# Altium footprint library Connectors.PcbLib: 76 footprints (part 5 of 5)
Each footprint in its own frame and in the unit in brackets; x right, y up, seen from the top. Pads: shape width x height; smd on the part's side, far side on the other; paste and mask are expansions set on the pad; w line width, h text height; cw(c..) or ccw(c..) is an arc to the next point about the centre after c.
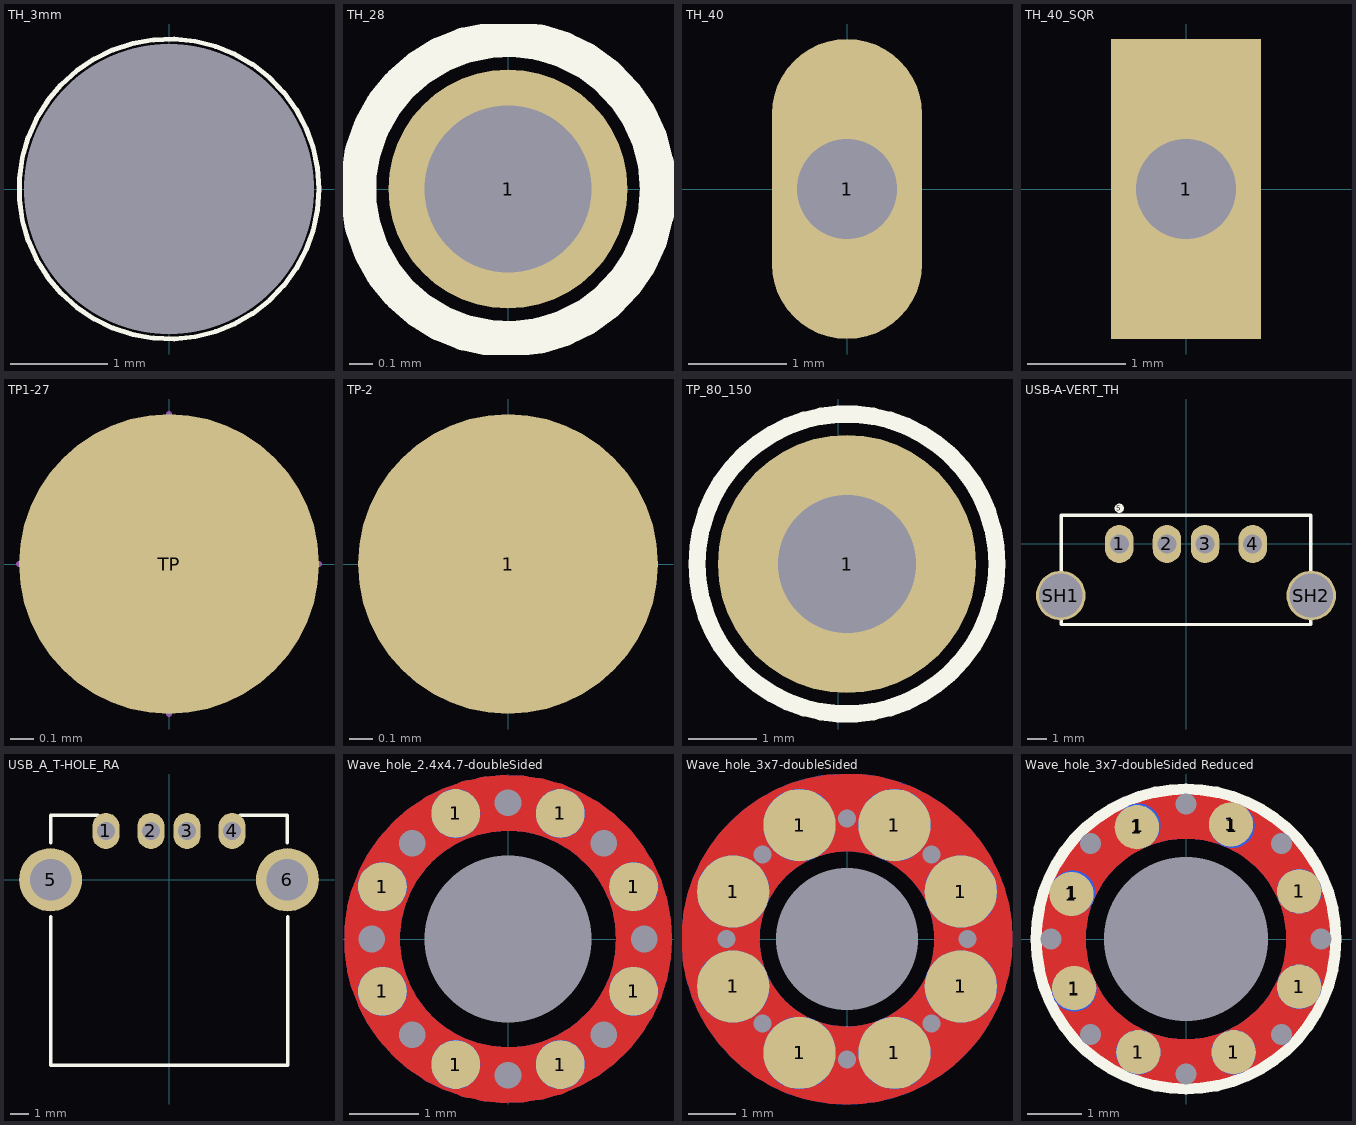
[diagram p4: the footprints below, top view; thin cyan lines are the x and y axes]

## TH_3mm [mm]
pads (1):
  round 0 hole 3 unplated mask+0: ""(0,0)
Top Overlay:
  circle w0.051: c0,0 r1.55

## TH_28 [mil]
pads (1):
  round 40 hole 28: 1(0,0)
Top Overlay:
  circle w6: c0,0 r25.08

## TH_40 [mil]
pads (1):
  oval 60x120 hole 40: 1(0,0)

## TH_40_SQR [mil]
pads (1):
  rect 60x120 hole 40: 1(0,0)

## TP1-27 [mm]
pads (1):
  rrect100% 1.27x1.27 smd paste-1.27: TP(0,0)
Mechanical 9:
  lines w0.025: -0.635,0 0.635,0 ; 0,-0.635 0,0.635
3D body: height 0.01, standoff 0, extent -0.64,-0.639 0.635,0.639

## TP-2 [mm]
pads (1):
  round 1.27 smd paste-2: 1(0,0)
3D body: height 0.03, standoff 0, extent -0.63,-0.634 0.635,0.634

## TP_80_150 [mil]
pads (1):
  round 150 hole 80: 1(5,-200)
Top Overlay:
  circle w10: c5,-200 r87.09

## USB-A-VERT_TH [mm]
pads (7):
  oval 1.5x2 hole 1: 1(-3.5,0) 2(-1,0) 3(1,0) 4(3.5,0)
  round 0.5 on Top Overlay mask+0.051: 5(-3.5,1.875)
  round 2.6 hole 2.3 mask+0.051: SH1(-6.57,-2.71) SH2(6.57,-2.71)
Top Overlay:
  lines w0.178: -6.55,-4.225 -6.55,1.5 6.55,1.5 6.55,-4.225 -6.55,-4.225
3D body: height 14, standoff 0, extent -6.55,-4.225 6.55,1.5

## USB_A_T-HOLE_RA [mm]
pads (6):
  oval 1.5x2 hole 1: 1(-3.5,2.71) 2(-1,2.71) 3(1,2.71) 4(3.5,2.71)
  round 3.5 hole 2.3: 5(-6.57,0) 6(6.57,0)
Top Overlay:
  lines w0.203: -6.55,-2.05 -6.55,-10.28 6.59,-10.28 6.59,-2.05 ; -6.55,2.06 -6.55,3.57 -3.95,3.57 ; 3.95,3.57 6.55,3.57 6.55,2.05
3D body "M-UE27-AC54-100-REVT1.STEP": height 7.6, standoff -3.15, extent -7.403,-10.25 7.444,3.55

## Wave_hole_2.4x4.7-doubleSided [mm]
pads (25):
  round 0 hole 0.381 paste-0.508 mask-0.508: 1(-1.95,0) 1(-1.375,-1.375) 1(-1.375,1.375) 1(0,-1.95) 1(0,1.95) 1(1.375,-1.375) 1(1.375,1.375) 1(1.951,0)
  round 0.7 smd paste-0.127 mask+0: 1(-1.8,-0.75) 1(-1.8,0.75) 1(-0.75,-1.8) 1(-0.75,1.8) 1(0.75,-1.8) 1(0.75,1.8) 1(1.8,-0.75) 1(1.8,0.75)
  round 0.7 smd far side paste-0.127 mask+0: 1(-1.8,-0.75) 1(-1.8,0.75) 1(-0.75,-1.8) 1(-0.75,1.8) 1(0.75,-1.8) 1(0.75,1.8) 1(1.8,-0.75) 1(1.8,0.75)
  round 0 hole 2.4 unplated paste+0 mask-2.845: ""(0,0)
Top Layer:
  circle w0.8: c0,0 r1.951
Bottom Layer:
  circle w0.8: c0,0 r1.951

## Wave_hole_3x7-doubleSided [mil]
pads (25):
  round 0 hole 15 paste-20 mask-20: 1(-100,0) 1(-70,-70) 1(-70,70) 1(0,-100) 1(0,100) 1(70,-70) 1(70,70) 1(100,0)
  round 60 smd paste-5 mask+0: 1(-94.49,-39.37) 1(-94.49,39.37) 1(-39.37,-94.49) 1(-39.37,94.49) 1(39.37,-94.49) 1(39.37,94.49) 1(94.49,-39.37) 1(94.49,39.37)
  round 60 smd far side paste-5 mask+0: 1(-94.49,-39.37) 1(-94.49,39.37) 1(-39.37,-94.49) 1(-39.37,94.49) 1(39.37,-94.49) 1(39.37,94.49) 1(94.49,-39.37) 1(94.49,39.37)
  round 0 hole 118.11 unplated paste+0 mask-112: ""(0,0)
Top Layer:
  lines w64.96: -74.25,-74.25 ccw(c0,0) 19.9,-103.1 ccw(c0,0) 105,0 ccw(c0,0) -74.25,-74.25
Bottom Layer:
  lines w64.96: -74.25,74.25 ccw(c0,0) 74.25,-74.25 ccw(c0,0) 105,0 ccw(c0,0) -74.25,74.25
3D body: height 0, standoff 0, extent -104.98,-104.98 104.98,104.98

## Wave_hole_3x7-doubleSided Reduced [mm]
pads (25):
  round 0 hole 0.381 paste-0.508 mask-0.508: 1(-2.475,0) 1(-1.75,-1.75) 1(-1.75,1.75) 1(0,-2.475) 1(0,2.475) 1(1.75,-1.75) 1(1.75,1.75) 1(2.475,0)
  round 0.813 smd paste-0.127 mask+0: 1(-2.1,0.825) 1(-2.05,-0.9) 1(-0.9,2.05) 1(-0.875,-2.075) 1(0.825,2.1) 1(0.875,-2.075) 1(2.075,-0.875) 1(2.075,0.875)
  round 0.813 smd far side paste-0.127 mask+0: 1(-2.075,0.85) 1(-2.05,-0.925) 1(-0.875,-2.075) 1(-0.875,2.075) 1(0.85,2.075) 1(0.875,-2.075) 1(2.075,-0.875) 1(2.075,0.875)
  round 0 hole 3 unplated paste+0 mask-2.845: ""(0,0)
Top Layer:
  circle w0.826: c0,0 r2.25
Bottom Layer:
  circle w0.826: c0,0 r2.251
Top Overlay:
  circle w0.203: c0,0 r2.75
3D body: height 0, standoff 0, extent -2.666,-2.666 2.666,2.666